# Altium schematic symbol library 线性稳压器.SchLib: 2 symbols
Pins are listed as number, name and electrical type; pins without a type are passive.

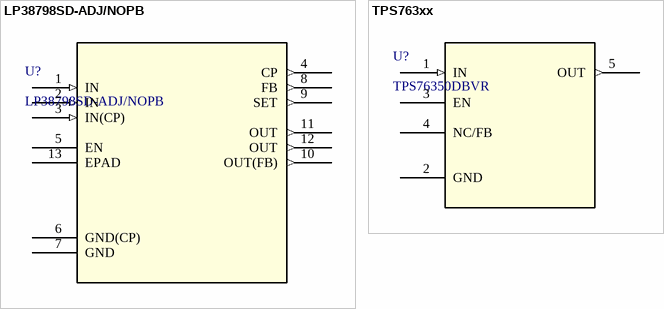
[diagram p0: symbols LP38798SD-ADJ/NOPB to TPS763xx]

## LP38798SD-ADJ/NOPB
designator U?
LP38798 800mA 超低噪声、高PSRR LDO; SourceLibrary: TI_2015-1-5; Built_By: EMA_UL_Team; Vendor: Texas Instruments; Manufacturer_Part_Number: LP38798SD-ADJ/NOPB; Copyright: Copyright (C) 2021 Accelerated Designs. All rights reserved; RefDes: RefDes; Type: DEV
footprint DNT12_TEX
footprint DNT12_TEX-L
footprint DNT12_TEX-M
pins: 1 IN (in), 2 IN (in), 3 IN(CP) (in), 4 CP (out), 5 EN, 6 GND(CP) (power), 7 GND (power), 8 FB (out), 9 SET (out), 10 OUT(FB) (out), 11 OUT (out), 12 OUT (out), 13 EPAD

## TPS763xx
designator U?, comment TPS76350DBVR
TPS763 低功耗150mA 低压降线性稳压器; Mfr_Name: Texas Instruments; Manufacturer_Part_Number: TPS76301DBVR; Copyright: Copyright (C) 2021 Ultra Librarian. All rights reserved.; RefDes: RefDes; Type: DEV
footprint DBV5
footprint DBV5-L
footprint DBV5-M
pins: 1 IN (in), 2 GND (power), 3 EN, 4 NC/FB, 5 OUT (out)